# EAGLE library part USB-MICRO-AB (library tb)
USB Micro-AB SMT connector Hirose Electric Co Ltd: ZX62-AB-5P
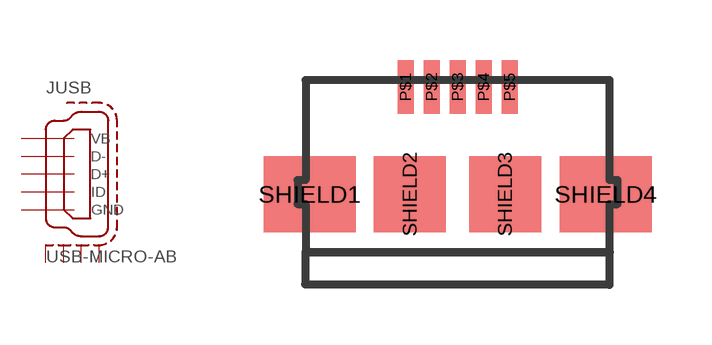
[diagram p4: symbol with the pads of USB-MICRO-AB; footprint USB-MICRO-AB]

Designator prefix J; gates SHIELD=USB-MICRO-SHIELD USB=USB-MICRO-AB

## USB-MICRO-AB  [USB-MICRO-AB]
P$1  USB:VB  pas
P$2  USB:D-  pas
P$3  USB:D+  pas
P$4  USB:ID  pas
P$5  USB:GND  pas
SHIELD1  SHIELD:S1  pas
SHIELD2  SHIELD:S2  pas
SHIELD3  SHIELD:S3  pas
SHIELD4  SHIELD:S4  pas

## Footprint USB-MICRO-AB (pad centres in mm)
USB Micro-B SMT receptor Hirose Electric Co Ltd: ZX62-B-5P
smd 0.4 x 1.35: P$1 -1.3,4.125; P$2 -0.65,4.125; P$3 0,4.125; P$4 0.65,4.125; P$5 1.3,4.125
smd 2.301 x 1.9: SHIELD1 -3.7,1.45; SHIELD4 3.7,1.45
smd 1.8 x 1.9: SHIELD2 -1.19,1.45; SHIELD3 1.19,1.45